# Altium footprint library LilyPad-Wearables.PCBLIB: 17 footprints (part 2 of 2)
Each footprint in its own frame and in the unit in brackets; x right, y up, seen from the top. Pads: shape width x height; smd on the part's side, far side on the other; paste and mask are expansions set on the pad; w line width, h text height; cw(c..) or ccw(c..) is an arc to the next point about the centre after c.
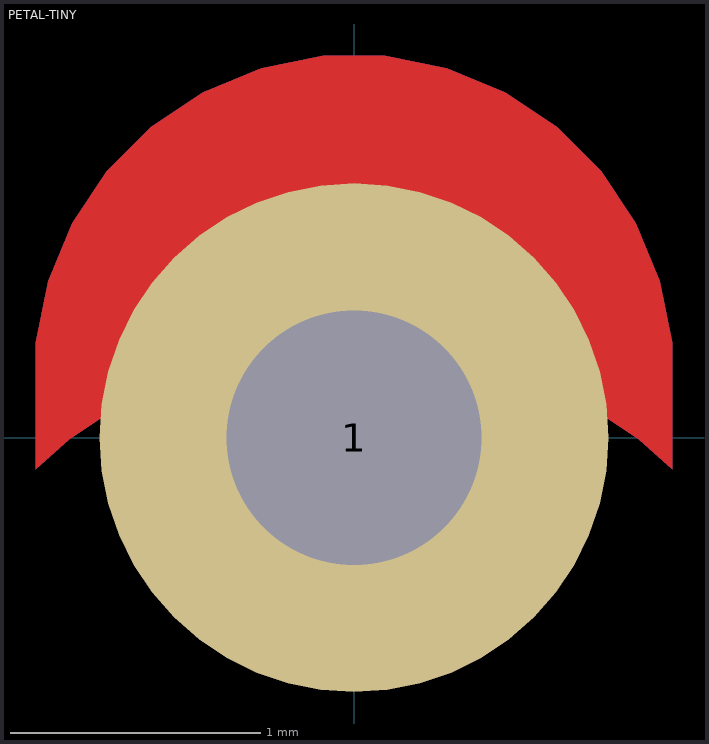
[diagram p1: the footprint, top view; thin cyan lines are the x and y axes]

## PETAL-TINY [mil]
pads (1):
  round 80 hole 40: 1(0,0)
Top:
  region: -50,-5 -50,10 -50,14.92 -48.08,24.58 -44.31,33.68 -38.84,41.87 -31.87,48.84 -23.68,54.31 -14.58,58.08 -4.92,60 0,60 4.92,60 14.58,58.08 23.68,54.31 31.87,48.84 38.84,41.87 44.31,33.68 48.08,24.58 50,14.92 50,10 50,-5 44.86,-0.34 33.33,7.36 20.53,12.67 6.93,15.37 -6.93,15.37 -20.53,12.67 -33.33,7.36 -44.86,-0.34 -50,-5
Bottom:
  region: -50,-5 -50,10 -50,14.92 -48.08,24.58 -44.31,33.68 -38.84,41.87 -31.87,48.84 -23.68,54.31 -14.58,58.08 -4.92,60 0,60 4.92,60 14.58,58.08 23.68,54.31 31.87,48.84 38.84,41.87 44.31,33.68 48.08,24.58 50,14.92 50,10 50,-5 44.86,-0.34 33.33,7.36 20.53,12.67 6.93,15.37 -6.93,15.37 -20.53,12.67 -33.33,7.36 -44.86,-0.34 -50,-5
Top Solder:
  region: -50,-5 -50,10 -50,14.92 -48.08,24.58 -44.31,33.68 -38.84,41.87 -31.87,48.84 -23.68,54.31 -14.58,58.08 -4.92,60 0,60 4.92,60 14.58,58.08 23.68,54.31 31.87,48.84 38.84,41.87 44.31,33.68 48.08,24.58 50,14.92 50,10 50,-5 44.86,-0.34 33.33,7.36 20.53,12.67 6.93,15.37 -6.93,15.37 -20.53,12.67 -33.33,7.36 -44.86,-0.34 -50,-5
  region: 0,-17.5 -3.4,-17.58 -9.75,-15.12 -14.67,-10.43 -17.42,-4.2 -17.5,-0.8 -17.59,2.77 -15.02,9.44 -10.1,14.61 -3.57,17.51 0,17.6 3.52,17.54 9.98,14.74 14.88,9.67 17.46,3.12 17.4,-0.4 17.37,-3.83 14.69,-10.15 9.79,-14.96 3.43,-17.53 0,-17.5
Bottom Solder:
  region: 0.1,-37.5 -3.55,-37.55 -10.74,-36.22 -17.53,-33.51 -23.66,-29.54 -28.9,-24.44 -33.04,-18.42 -35.93,-11.7 -37.45,-4.55 -37.5,-0.9 -37.54,2.84 -36.17,10.19 -33.4,17.13 -29.32,23.39 -24.09,28.74 -17.93,32.97 -11.05,35.91 -3.74,37.46 0,37.5 3.74,37.45 11.05,35.88 17.91,32.92 24.07,28.68 29.28,23.31 33.34,17.04 36.1,10.09 37.45,2.74 37.4,-1 37.36,-4.63 35.87,-11.75 33.01,-18.43 28.91,-24.44 23.71,-29.52 17.63,-33.49 10.88,-36.2 3.73,-37.54 0.1,-37.5
  region: 50,-5 50,10 50,14.92 48.08,24.58 44.31,33.68 38.84,41.87 31.87,48.84 23.68,54.31 14.58,58.08 4.92,60 0,60 -4.92,60 -14.58,58.08 -23.68,54.31 -31.87,48.84 -38.84,41.87 -44.31,33.68 -48.08,24.58 -50,14.92 -50,10 -50,-5 -44.86,-0.34 -33.33,7.36 -20.53,12.67 -6.93,15.37 6.93,15.37 20.53,12.67 33.33,7.36 44.86,-0.34 50,-5